# EAGLE library part BTS7960 (library BTS7960)
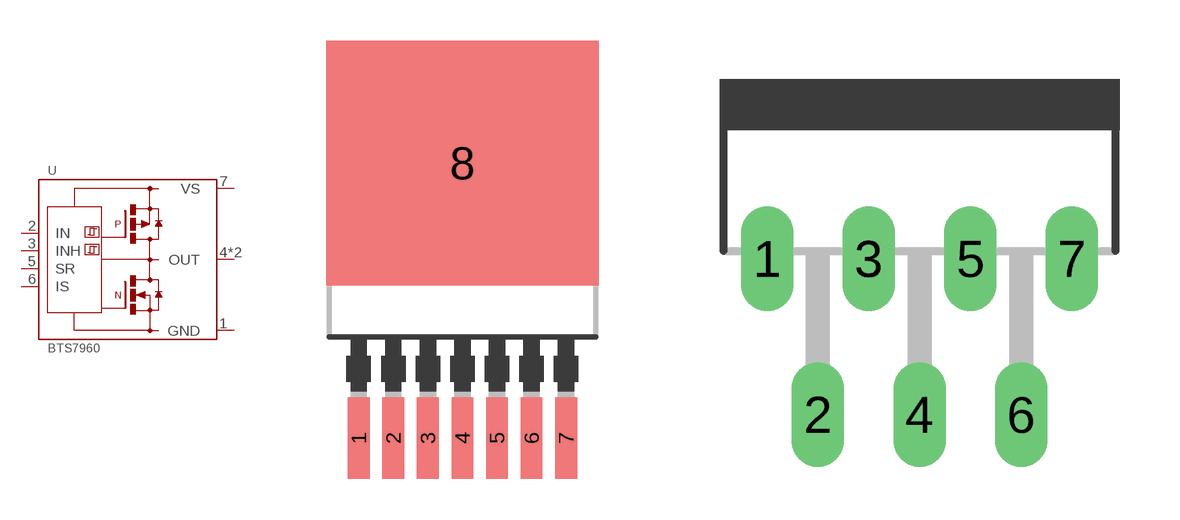
[diagram p0: symbol with the pads of P-TO263-7; footprints P-TO263-7, P-TO220-7]

Designator prefix -

## BTS7960TO263  [P-TO263-7]
1  GND  sup
2  IN  in
3  INH  in
4  OUT  out
5  SR  in
6  IS  out
7  VS  sup
8  OUT  out

## BTS7960TO220  [P-TO220-7]
1  GND  sup
2  IN  in
3  INH  in
4  OUT  out
5  SR  in
6  IS  out
7  VS  sup

## Footprint P-TO263-7 (pad centres in mm)
Plastic Transistor Single Outline Package P-TO263-7-1 Option E3180 Source: http://www.infineon.com .. tle5205-2.pdf
smd 0.8 x 3: 1 -3.81,-9.207; 2 -2.54,-9.207; 3 -1.27,-9.207; 4 0,-9.207; 5 1.27,-9.207; 6 2.54,-9.207; 7 3.81,-9.207
smd 10 x 9: 8 0,0.895

## Footprint P-TO220-7 (pad centres in mm)
(Plastic Transistor Single Outline Package)P-TO220-7-11 Source: http://www.infineon.com .. tle5205-2.pdf
drill 0.8 pad 1.2 long: 1 -3.81,-1.85; 2 -2.54,-5.75; 3 -1.27,-1.85; 4 0,-5.75; 5 1.27,-1.85; 6 2.54,-5.75; 7 3.81,-1.85